# Altium footprint library TJC3_XH2.54.PcbLib: 6 footprints
Each footprint in its own frame and in the unit in brackets; x right, y up, seen from the top. Pads: shape width x height; smd on the part's side, far side on the other; paste and mask are expansions set on the pad; w line width, h text height; cw(c..) or ccw(c..) is an arc to the next point about the centre after c.
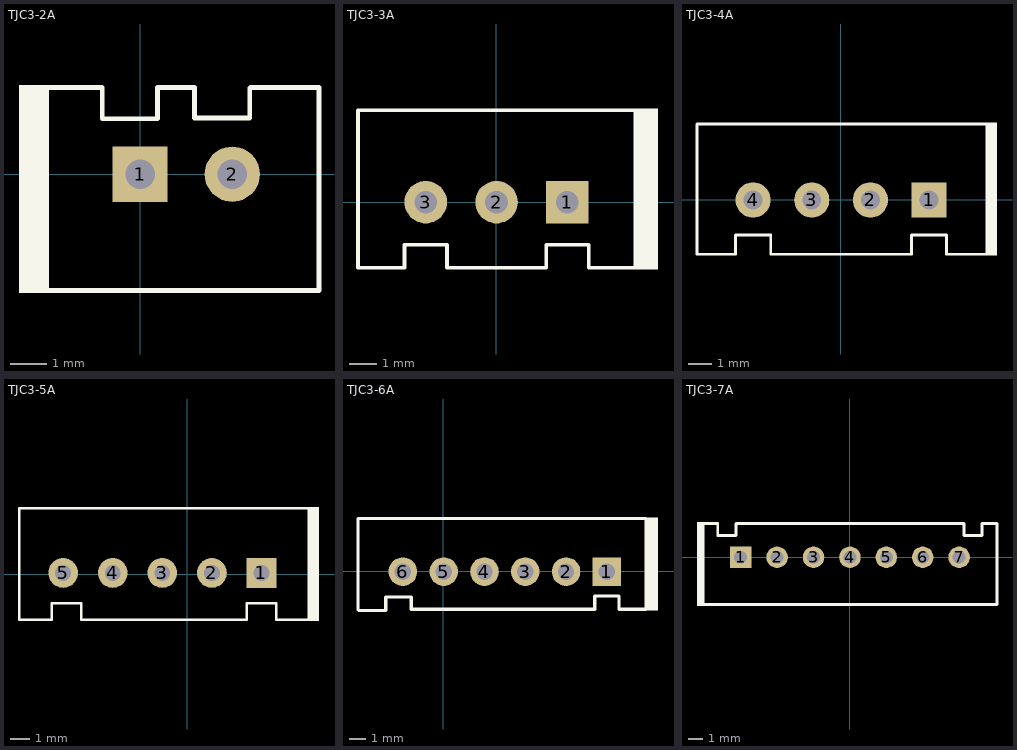
[diagram p0: the footprints below, top view; thin cyan lines are the x and y axes]

## TJC3-2A [mil]
pads (2):
  rect 60x60 hole 32: 1(0,0)
  round 60 hole 32: 2(100,0)
Top Overlay:
  region: -98.84,96.5 -131.17,96.5 -131.17,-128.5 -98.84,-128.5
  lines w5: -105,-126 194,-126 194,94 119.48,94 ; -104,94 -87,94 -41,94 -41,60 19,60 19,94 59,94 59,61 119,61 119,93.52

## TJC3-3A [mil]
pads (3):
  rect 60x60 hole 32: 1(100.17,0)
  round 60 hole 32: 2(0.17,0) 3(-99.83,0)
Top Overlay:
  rectangle: 195.84,-95.1 228.17,132.4
  lines w5: -195.5,-92.52 -195.5,129.92 195.84,129.92 195.84,-92.52 130.17,-92.52 130.17,-60 70.17,-60 70.17,-92.52 -69.83,-92.52 -69.83,-60 -129.83,-60 -129.83,-92.52 -195.5,-92.52

## TJC3-4A [mil]
pads (4):
  rect 60x60 hole 32: 1(150.28,0)
  round 60 hole 32: 2(50.27,0) 3(-49.73,0) 4(-149.72,0)
Top Overlay:
  rectangle: 246,-95 266,132.5
  lines w5: 245.94,-92.52 180.28,-92.52 180.28,-60 120.28,-60 120.28,-92.52 -119.72,-92.52 -119.72,-60 -179.72,-60 -179.72,-92.52 -245.4,-92.52 -245.4,129.92 245.94,129.92

## TJC3-5A [mil]
pads (5):
  rect 60x60 hole 32: 1(149.5,2.5)
  round 60 hole 32: 2(49.5,2.5) 3(-50.5,2.5) 4(-150.5,2.5) 5(-250.5,2.5)
Top Overlay:
  rectangle: 245.17,-94 265.5,134.9
  lines w5: -214,-91.5 -214,-58.98 -273.5,-58.98 -273.5,-91.5 -339.17,-91.5 -339.17,132.09 -339.5,132.42 -246.17,132.42 245.17,132.42 245.17,-90.02 ; -213,-91.5 -120.5,-91.5 119.5,-91.5 ; 119.5,-90.02 119.5,-58.98 179.5,-58.98 179.5,-91.5 245.17,-91.5

## TJC3-6A [mil]
pads (6):
  rect 70x70 hole 40: 1(400.67,-0.92)
  round 70 hole 40: 2(300.67,-0.92) 3(200.67,-0.92) 4(100.67,-0.92) 5(0.67,-0.92) 6(-99.33,-0.92)
Top Overlay:
  rectangle: 496.34,-96 526,131.5
  lines w8: -209.33,-94.92 -209.33,128.67 ; -209.33,129 5,129 496.34,129 496.34,-93.44 430.67,-93.44 430.67,-60.92 370.67,-60.92 370.67,-93.44 ; -208,-96 -141,-96 -141,-63.48 ; -140,-63 -80,-63 ; -79,-64 -79,-93 367.59,-93

## TJC3-7A [mm]
pads (7):
  rect 1.5x1.5 hole 0.9: 1(-7.62,0)
  round 1.5 hole 0.9: 2(-5.08,0) 3(-2.54,0) 4(0,0) 5(2.54,0) 6(5.08,0) 7(7.62,0)
Top Overlay:
  rectangle: -10.668,-3.404 -10.262,2.464
  lines w0.203: -10.262,-3.302 10.262,-3.302 10.262,2.362 9.22,2.362 9.22,1.524 7.95,1.524 7.95,2.362 -7.95,2.362 -7.95,1.524 -9.22,1.524 -9.22,2.362 -10.262,2.362 -10.262,-3.302